# Altium footprint library 接插件.PcbLib: 193 footprints (part 12 of 13)
Each footprint in its own frame and in the unit in brackets; x right, y up, seen from the top. Pads: shape width x height; smd on the part's side, far side on the other; paste and mask are expansions set on the pad; w line width, h text height; cw(c..) or ccw(c..) is an arc to the next point about the centre after c.
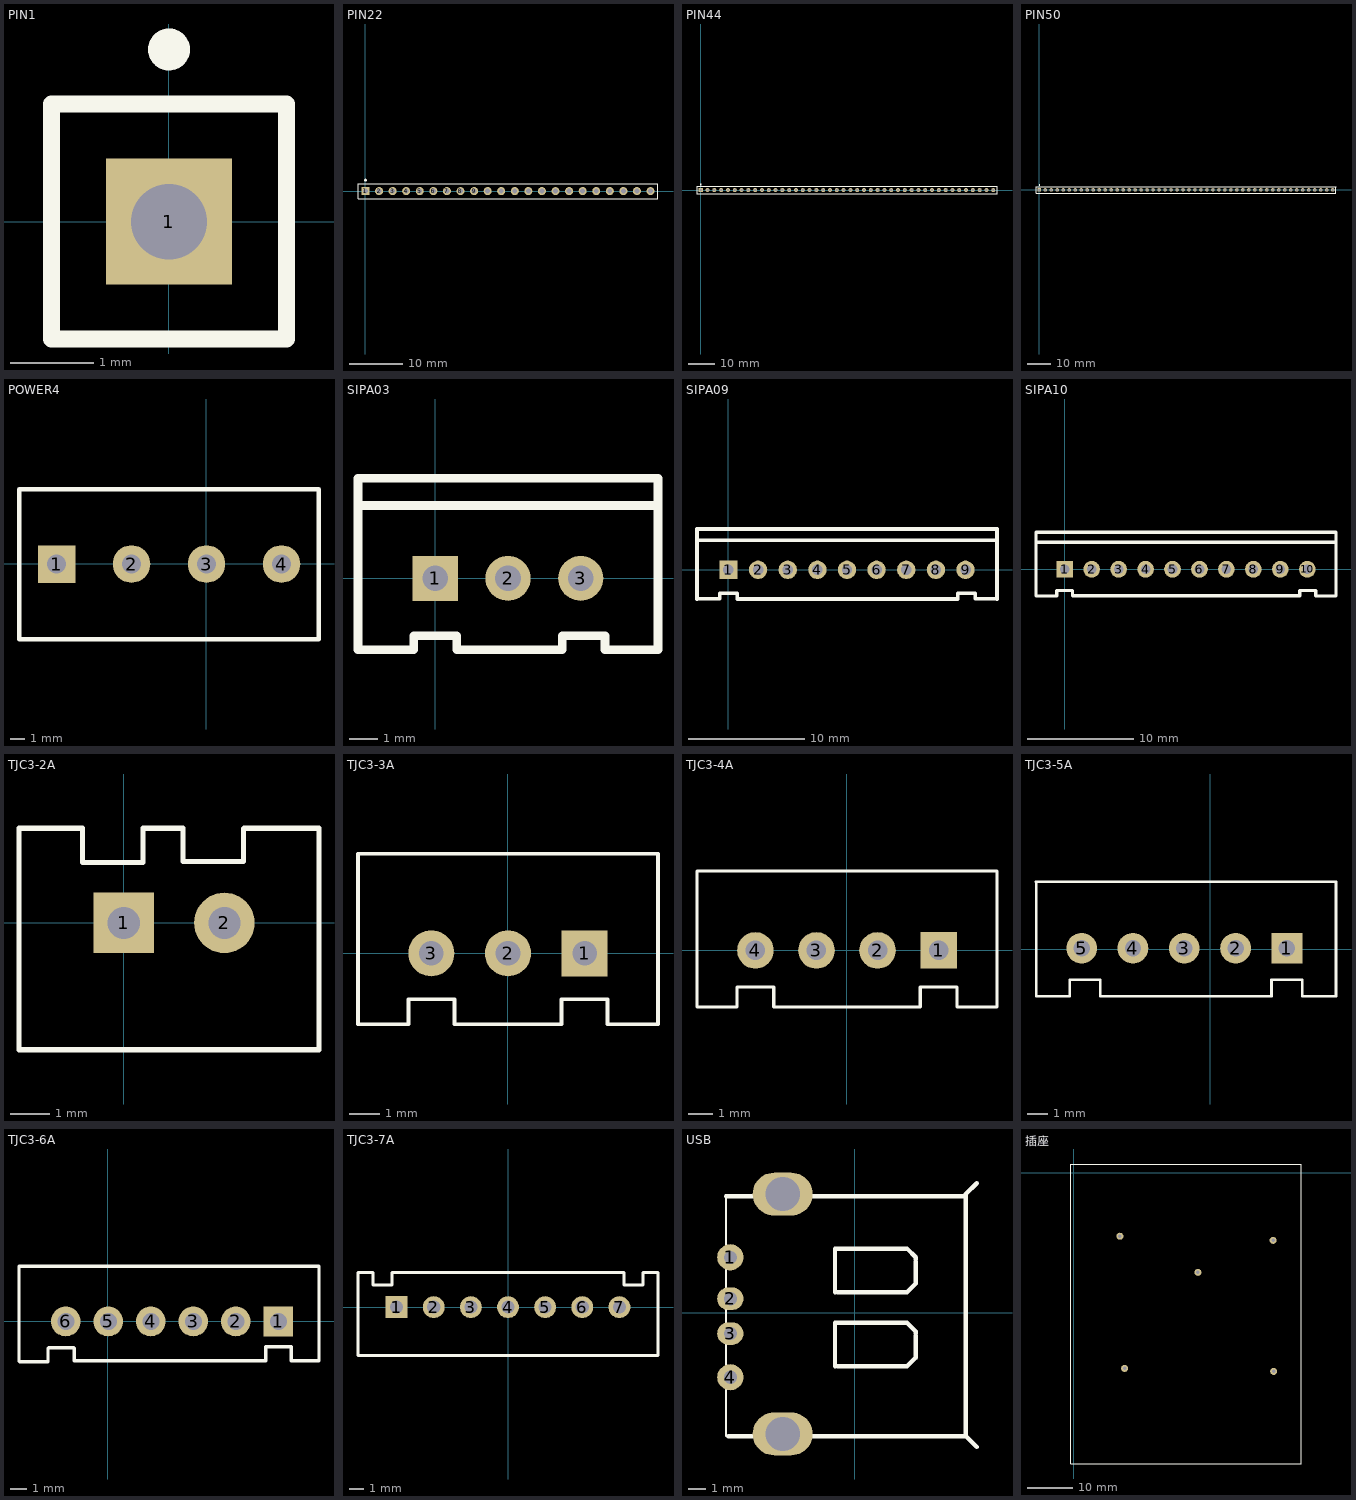
[diagram p11: the footprints below, top view; thin cyan lines are the x and y axes]

## PIN1 [mm] "Connector; Plug"
pads (1):
  rect 1.5x1.5 hole 0.9: 1(0,0)
Top Overlay:
  circle w0.25: c0,2.05 r0.125
  lines w0.2: -1.4,-1.4 -1.4,1.4 1.4,1.4 1.4,-1.4 -1.4,-1.4

## PIN22 [mm] "Connector; Edge; 22 Position"
pads (22):
  rect 1.5x1.5 hole 0.9: 1(0,0)
  round 1.5 hole 0.9: 2(2.54,0) 3(5.08,0) 4(7.62,0) 5(10.16,0) 6(12.7,0) 7(15.24,0) 8(17.78,0) 10(22.86,0) 11(25.4,0) 12(27.94,0) 13(30.48,0) 14(33.02,0) 15(35.56,0) 16(38.1,0) 17(40.64,0) 18(43.18,0) 19(45.72,0) 20(48.26,0) 21(50.8,0) 22(53.34,0)
  oval 1.51x1.5 hole 0.9: 9(20.32,0)
Top Overlay:
  circle w0.25: c0,2.05 r0.125
  lines w0.2: -1.4,-1.4 54.74,-1.4 54.74,1.4 -1.4,1.4 -1.4,-1.4

## PIN44 [mm] "Connector; Edge; 44 Position"
pads (44):
  rect 1.5x1.5 hole 0.9: 1(0,0)
  round 1.5 hole 0.9: 2(2.54,0) 3(5.08,0) 4(7.62,0) 5(10.16,0) 6(12.7,0) 7(15.24,0) 8(17.78,0) 10(22.86,0) 11(25.4,0) 12(27.94,0) 13(30.48,0) 14(33.02,0) 15(35.56,0) 16(38.1,0) 17(40.64,0) 18(43.18,0) 19(45.72,0) 20(48.26,0) 21(50.8,0) 22(53.34,0) 23(55.88,0) 24(58.42,0) 25(60.96,0) 26(63.5,0) 27(66.04,0) 28(68.58,0) 29(71.12,0) 30(73.66,0) 31(76.2,0) 32(78.74,0) 33(81.28,0) 34(83.82,0) 35(86.36,0) 36(88.9,0) 37(91.44,0) 38(93.98,0) 39(96.52,0) 40(99.06,0) 41(101.6,0) 42(104.14,0) 43(106.68,0) 44(109.22,0)
  oval 1.51x1.5 hole 0.9: 9(20.32,0)
Top Overlay:
  circle w0.25: c0,2.05 r0.125
  lines w0.2: -1.4,-1.4 110.62,-1.4 110.62,1.4 -1.4,1.4 -1.4,-1.4

## PIN50 [mm] "Connector; Edge; 50 Position"
pads (50):
  rect 1.5x1.5 hole 0.9: 1(0,0)
  round 1.5 hole 0.9: 2(2.54,0) 3(5.08,0) 4(7.62,0) 5(10.16,0) 6(12.7,0) 7(15.24,0) 8(17.78,0) 9(20.32,0) 10(22.86,0) 11(25.4,0) 12(27.94,0) 13(30.48,0) 14(33.02,0) 15(35.56,0) 16(38.1,0) 17(40.64,0) 18(43.18,0) 19(45.72,0) 20(48.26,0) 22(53.34,0) 23(55.88,0) 24(58.42,0) 25(60.96,0) 26(63.5,0) 27(66.04,0) 28(68.58,0) 29(71.12,0) 30(73.66,0) 31(76.2,0) 32(78.74,0) 33(81.28,0) 34(83.82,0) 35(86.36,0) 36(88.9,0) 37(91.44,0) 38(93.98,0) 39(96.52,0) 40(99.06,0) 41(101.6,0) 42(104.14,0) 43(106.68,0) 44(109.22,0) 45(111.76,0) 46(114.3,0) 47(116.84,0) 48(119.38,0) 49(121.92,0) 50(124.46,0)
  oval 1.51x1.5 hole 0.9: 21(50.8,0)
Top Overlay:
  circle w0.25: c0,2.05 r0.125
  lines w0.2: -1.4,-1.4 125.86,-1.4 125.86,1.4 -1.4,1.4 -1.4,-1.4

## POWER4 [mm]
pads (4):
  rect 2.54x2.54 hole 1.27: 1(-10.148,-0.006)
  round 2.54 hole 1.27: 2(-5.068,-0.006) 3(0.012,-0.006) 4(5.092,-0.006)
Top Overlay:
  lines w0.305: -12.688,-5.086 -12.688,5.074 7.632,5.074 7.632,-5.086 -12.688,-5.086

## SIPA03 [mil]
pads (3):
  rect 62x62 hole 35.43: 1(0,0)
  round 62 hole 35.43: 2(100,0) 3(200,0)
Top Overlay:
  lines w11.81: -106.3,-98.42 -29.53,-98.42 -29.53,-78.74 29.53,-78.74 29.53,-98.42 ; 174.41,-98.42 174.41,-78.74 233.47,-78.74 233.47,-98.42 306.3,-98.42
  lines w12: -106.3,-98.42 -106.3,137.79 304.72,137.79 ; -106.3,100 304.72,100 ; 29.53,-98.42 174.41,-98.42 ; 306.3,-98.42 306.3,137.79

## SIPA09 [mil]
pads (9):
  rect 62x62 hole 35.43: 1(0,0)
  round 62 hole 35.43: 2(100,0) 3(200,0) 4(300,0) 5(400,0) 6(500,0) 7(600,0) 8(700,0) 9(800,0)
Top Overlay:
  lines w11.81: -106.3,-98.42 -29.53,-98.42 -29.53,-78.74 29.53,-78.74 29.53,-98.42 ; 774.41,-98.42 774.41,-78.74 833.47,-78.74 833.47,-98.42 906.3,-98.42
  lines w12: -106.3,-98.42 -106.3,137.79 904.72,137.79 ; -106.3,100 904.72,100 ; 29.53,-98.42 774.41,-98.42 ; 906.3,-98.42 906.3,137.79

## SIPA10 [mil]
pads (10):
  rect 62x62 hole 35.43: 1(0,0)
  round 62 hole 35.43: 2(100,0) 3(200,0) 4(300,0) 5(400,0) 6(500,0) 7(600,0) 8(700,0) 9(800,0) 10(900,0)
Top Overlay:
  lines w11.81: -106.3,-98.42 -29.53,-98.42 -29.53,-78.74 29.53,-78.74 29.53,-98.42 ; 872.05,-98.42 872.05,-78.74 931.1,-78.74 931.1,-98.42 1005.32,-98.42
  lines w12: -106.3,-98.42 -106.3,137.79 1006.3,137.79 1006.3,-98.42 ; -106.3,100 1006.3,100 ; 29.53,-98.42 872.05,-98.42

## TJC3-2A [mil]
pads (2):
  rect 60x60 hole 32: 1(0,0)
  round 60 hole 32: 2(100,0)
Top Overlay:
  lines w5: 119,93.52 119,61 59,61 59,94 19,94 19,60 -41,60 -41,94 -87,94 -104,94 -104,-125 -104,-126 194,-126 194,94 119.48,94

## TJC3-3A [mil]
pads (3):
  rect 60x60 hole 32: 1(100.17,0)
  round 60 hole 32: 2(0.17,0) 3(-99.83,0)
Top Overlay:
  lines w5: -195.5,-92.52 -129.83,-92.52 -129.83,-60 -69.83,-60 -69.83,-92.52 70.17,-92.52 70.17,-60 130.17,-60 130.17,-92.52 195.84,-92.52 195.84,129.92 -195.5,129.92 -195.5,-92.52

## TJC3-4A [mil]
pads (4):
  rect 60x60 hole 32: 1(150.28,0)
  round 60 hole 32: 2(50.27,0) 3(-49.73,0) 4(-149.72,0)
Top Overlay:
  lines w5: -245.4,-92.52 -245.4,129.92 245.94,129.92 245.94,-92.52 180.28,-92.52 180.28,-60 120.28,-60 120.28,-92.52 -119.72,-92.52 -119.72,-60 -179.72,-60 -179.72,-92.52 -245.4,-92.52

## TJC3-5A [mil]
pads (5):
  rect 60x60 hole 32: 1(149.5,2.5)
  round 60 hole 32: 2(49.5,2.5) 3(-50.5,2.5) 4(-150.5,2.5) 5(-250.5,2.5)
Top Overlay:
  lines w5: -214,-91.5 -214,-58.98 -273.5,-58.98 -273.5,-91.5 -339.17,-91.5 -339.17,132.09 -339.5,132.42 -246.17,132.42 245.17,132.42 245.17,-90.02 ; -213,-91.5 -120.5,-91.5 119.5,-91.5 ; 119.5,-90.02 119.5,-58.98 179.5,-58.98 179.5,-91.5 245.17,-91.5

## TJC3-6A [mil]
pads (6):
  rect 70x70 hole 40: 1(400.67,-0.92)
  round 70 hole 40: 2(300.67,-0.92) 3(200.67,-0.92) 4(100.67,-0.92) 5(0.67,-0.92) 6(-99.33,-0.92)
Top Overlay:
  lines w8: -209.33,-94.92 -209.33,128.67 ; -209.33,129 5,129 496.34,129 496.34,-93.44 430.67,-93.44 430.67,-60.92 370.67,-60.92 370.67,-93.44 ; -208,-96 -141,-96 -141,-63.48 ; -140,-63 -80,-63 ; -79,-64 -79,-93 367.59,-93

## TJC3-7A [mm]
pads (7):
  rect 1.5x1.5 hole 0.9: 1(-7.62,0)
  round 1.5 hole 0.9: 2(-5.08,0) 3(-2.54,0) 4(0,0) 5(2.54,0) 6(5.08,0) 7(7.62,0)
Top Overlay:
  lines w0.203: -10.262,-3.302 -10.262,2.362 -9.22,2.362 -9.22,1.524 -7.95,1.524 -7.95,2.362 7.95,2.362 7.95,1.524 9.22,1.524 9.22,2.362 10.262,2.362 10.262,-3.302 -10.262,-3.302

## USB [mm]
pads (6):
  round 1.524 hole 0.762: 1(-7.255,3.228) 4(-7.255,-3.757)
  oval 1.524x1.324 hole 0.762: 2(-7.255,0.815) 3(-7.255,-1.217)
  oval 3.5x2.5 hole 2: ""(-4.207,-7.059) ""(-4.207,6.911)
Top Overlay:
  lines w0.102: -7.509,-7.186 -7.509,6.784
  lines w0.254: -7.509,6.784 6.461,6.784 ; -7.382,-7.186 6.461,-7.186 ; -1.159,-3.122 -1.159,-0.582 3.032,-0.582 3.54,-1.09 3.54,-1.217 ; -1.159,1.196 -1.159,3.736 3.032,3.736 3.54,3.228 3.54,3.101 ; -1.032,-3.122 3.032,-3.122 3.54,-2.614 3.54,-1.344 ; -1.032,1.196 3.032,1.196 3.54,1.704 3.54,2.974 ; 7.096,-7.821 6.461,-7.186 ; 7.096,7.546 6.461,6.911 6.461,6.784 ; 6.461,-7.186 6.461,6.784

## 插座 [mil]
pads (5):
  round 60 hole 30: 1(1715,-1705) 2(395,-545) 3(1710,-580) 4(1065,-855) 5(435,-1680)
Top Overlay:
  lines w10: -25,-2500 1950,-2500 1950,75 -25,75 -25,-2500